# EAGLE library part MOLEX_504050-0591 (library Molex 504050)
Conn Wire to Board HDR 5 POS 1.5mm Solder RA SMD Pico-Lock
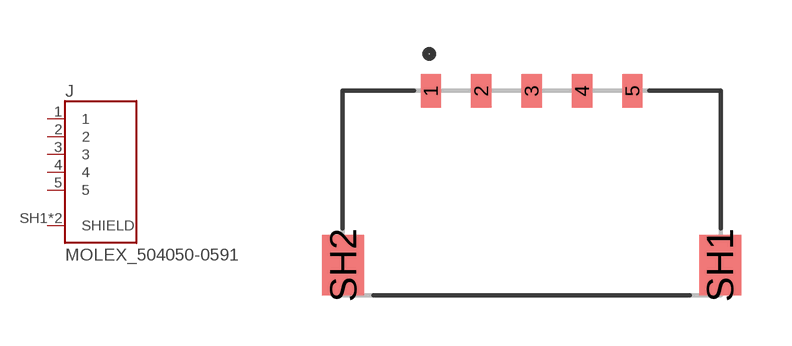
[diagram p0: symbol with the pads of MOLEX_5040500591; footprint MOLEX_5040500591]

Designator prefix J

## MOLEX_504050-0591 (AVAILABILITY: Good; DESCRIPTION: Conn Wire to Board HDR 5 POS 1.5mm Solder RA SMD Pico-Lock; MF: Molex; MP: 5040500491; PACKAGE: None)  [MOLEX_5040500591]
1  1  pas
2  2  pas
3  3  pas
4  4  pas
5  5  pas
SH1  SHIELD  pwr
SH2  SHIELD  pwr

## Footprint MOLEX_5040500591 (pad centres in mm)
smd 0.6 x 1: 1 -3,3.04; 2 -1.5,3.04; 3 0,3.04; 4 1.5,3.04; 5 3,3.04
smd 1.25 x 1.8: SH1 5.605,-2.15; SH2 -5.605,-2.15